# Altium footprint library MZBT_PcpLibrary.PcbLib: 144 footprints (part 6 of 9)
Each footprint in its own frame and in the unit in brackets; x right, y up, seen from the top. Pads: shape width x height; smd on the part's side, far side on the other; paste and mask are expansions set on the pad; w line width, h text height; cw(c..) or ccw(c..) is an arc to the next point about the centre after c.
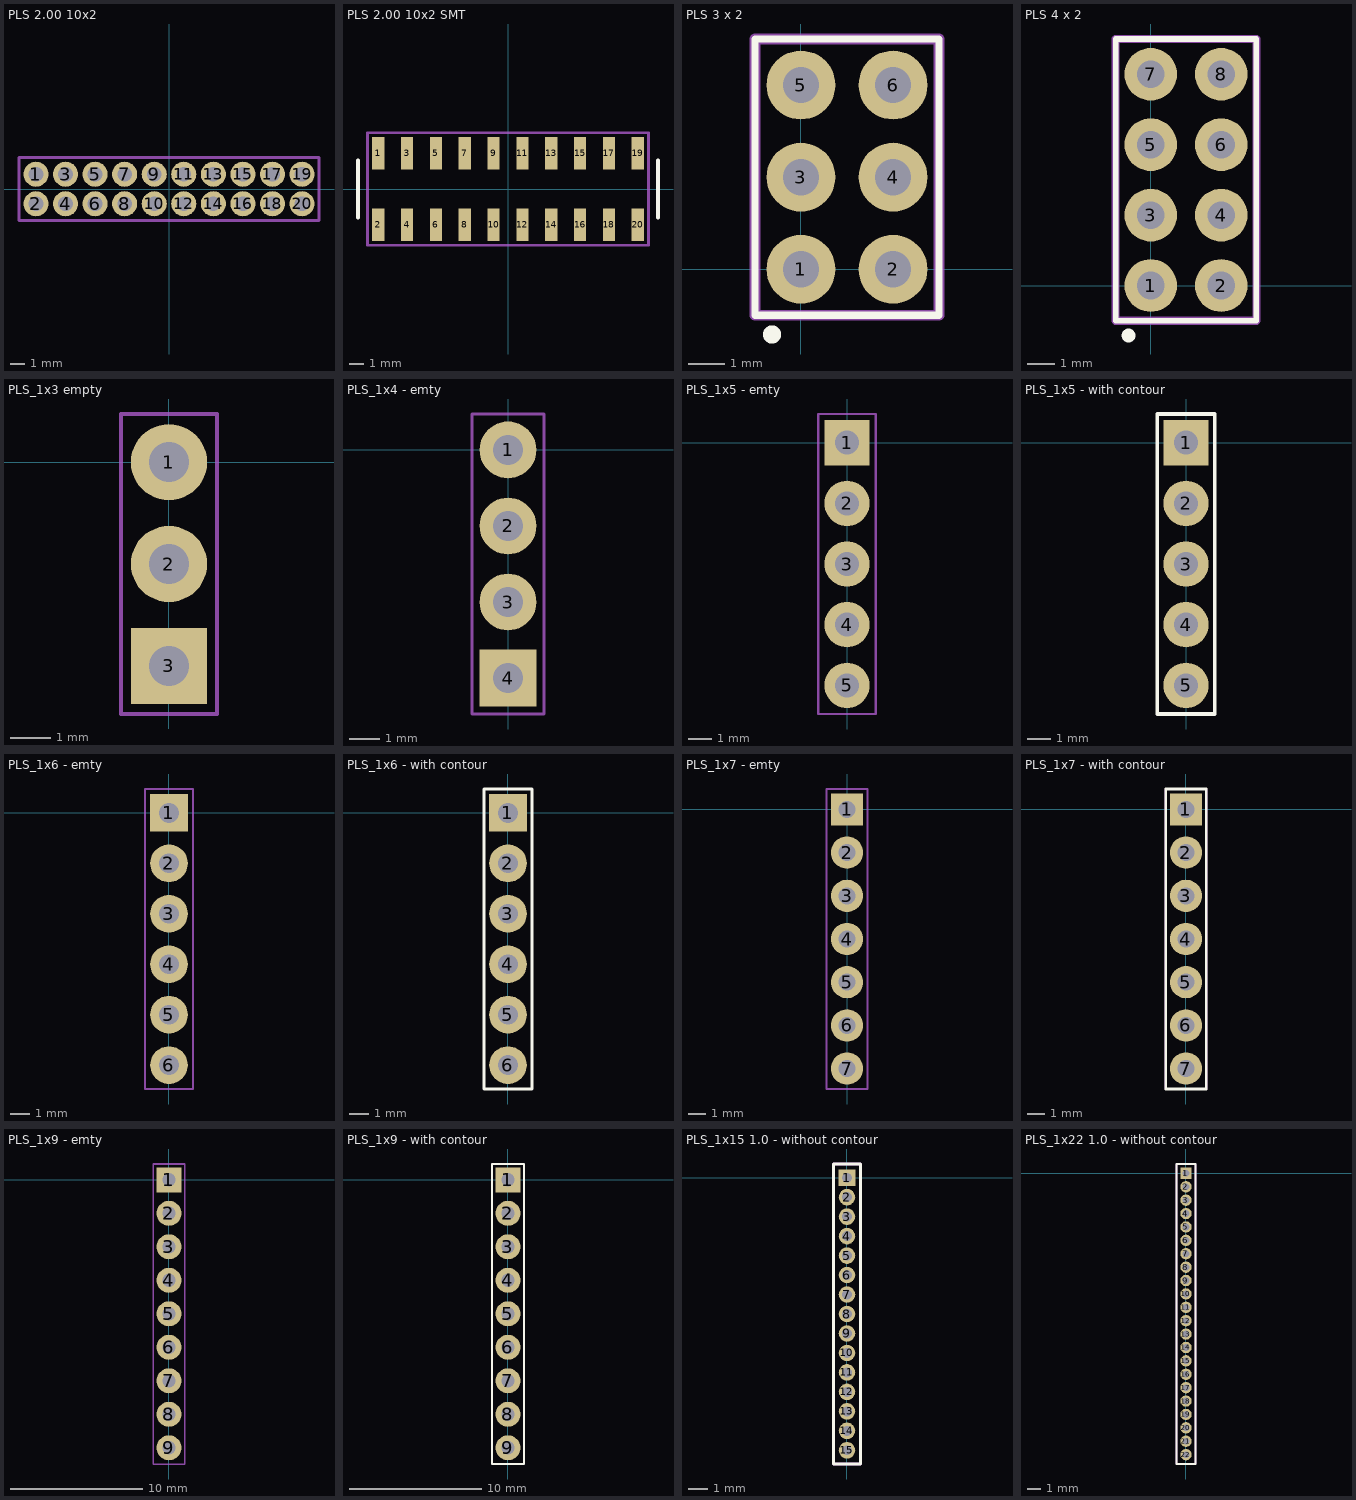
[diagram p5: the footprints below, top view; thin cyan lines are the x and y axes]

## PLS 2.00 10x2 [mm] "сквозной PLS 2.00 10x2"
pads (20):
  round 1.7 hole 1: 1(-9,1) 2(-9,-1) 3(-7,1) 4(-7,-1) 5(-5,1) 6(-5,-1) 7(-3,1) 8(-3,-1) 9(-1,1) 10(-1,-1) 11(1,1) 12(1,-1) 13(3,1) 14(3,-1) 15(5,1) 16(5,-1) 17(7,1) 18(7,-1) 19(9,1) 20(9,-1)
Top Courtyard:
  lines w0.2: -10.15,-2.125 -10.15,2.125 10.15,2.125 10.15,-2.125 -10.15,-2.125

## PLS 2.00 10x2 SMT [mm] "PLS с шагом 2мм 10x2 SMT монтажа"
pads (20):
  rect 0.85x2.25 smd: 1(-9,2.475) 2(-9,-2.475) 3(-7,2.475) 4(-7,-2.475) 5(-5,2.475) 6(-5,-2.475) 7(-3,2.475) 8(-3,-2.475) 9(-1,2.475) 10(-1,-2.475) 11(1,2.475) 12(1,-2.475) 13(3,2.475) 14(3,-2.475) 15(5,2.475) 16(5,-2.475) 17(7,2.475) 18(7,-2.475) 19(9,2.475) 20(9,-2.475)
Top Overlay:
  lines w0.254: -10.4,-2 -10.4,2 ; 10.4,-2 10.4,2
Top Courtyard:
  lines w0.2: -9.75,-3.9 -9.75,3.9 9.75,3.9 9.75,-3.9 -9.75,-3.9
3D body "SMT10x2pin.stp": height 4.3, standoff 0, extent -10.2,-3.25 10.2,3.25

## PLS 3 x 2 [mm] "2.54"
pads (6):
  round 1.9 hole 1: 1(0,0) 2(2.54,0) 3(0,2.54) 4(2.54,2.54) 5(0,5.08) 6(2.54,5.08)
Top Overlay:
  circle w0.25: c-0.8,-1.8 r0.125
  lines w0.2: -1.27,-1.27 -1.27,6.35 3.81,6.35 3.81,-1.27 -1.27,-1.27
Top Comment:
  text ".Comment" at 0.339,2.126 h0.6
Top Designator (Mech9):
  text ".Designator" at -0.176,2.643 h0.8
Top Courtyard:
  lines w0.3: -1.27,-1.27 -1.27,6.35 3.81,6.35 3.81,-1.27 -1.27,-1.27

## PLS 4 x 2 [mm] "2.54"
pads (8):
  round 1.9 hole 1: 1(0,0) 2(2.54,0) 3(0,2.54) 4(2.54,2.54) 5(0,5.08) 6(2.54,5.08) 7(0,7.62) 8(2.54,7.62)
Top Overlay:
  circle w0.25: c-0.8,-1.8 r0.125
  lines w0.2: -1.27,-1.27 3.81,-1.27 3.81,8.89 -1.27,8.89 -1.27,-1.27
Top Comment:
  text ".Comment" at 0.339,2.126 h0.6
Top Designator (Mech9):
  text ".Designator" at -0.176,2.643 h0.8
Top Courtyard:
  lines w0.3: -1.27,-1.27 3.81,-1.27 3.81,8.89 -1.27,8.89 -1.27,-1.27

## PLS_1x3 empty [mm]
height 0.05
pads (3):
  round 1.9 hole 1: 1(0,0) 2(0,-2.54)
  rect 1.9x1.9 hole 1: 3(0,-5.08)
Top Comment:
  lines w0.1: -1.2,-6.28 -1.2,1.2 1.2,1.2 1.2,-6.28 -1.2,-6.28
  text ".Comment" at 1.3,0.15 h0.6
Top Designator (Mech9):
  text ".Designator" at 1.3,0.65 h0.8
Top Courtyard:
  lines w0.1: -1.2,-6.28 1.2,-6.28 1.2,1.2 -1.2,1.2 -1.2,-6.28

## PLS_1x4 - emty [mm]
height 0.05
pads (4):
  round 1.9 hole 1: 1(0,0) 2(0,-2.54) 3(0,-5.08)
  rect 1.9x1.9 hole 1: 4(0,-7.62)
Top Comment:
  lines w0.1: -1.2,-8.82 1.2,-8.82 1.2,1.2 -1.2,1.2 -1.2,-8.82
  text ".Comment" at 1.3,0.15 h0.6
Top Designator (Mech9):
  text ".Designator" at 1.3,0.65 h0.8
Top Courtyard:
  lines w0.1: -1.2,-8.82 -1.2,1.2 1.2,1.2 1.2,-8.82 -1.2,-8.82

## PLS_1x5 - emty [mm]
height 0.05
pads (5):
  rect 1.9x1.9 hole 1: 1(0,0)
  round 1.9 hole 1: 2(0,-2.54) 3(0,-5.08) 4(0,-7.62) 5(0,-10.16)
Top Comment:
  lines w0.1: -1.2,-11.36 -1.2,1.2 1.2,1.2 1.2,-11.36 -1.2,-11.36
  text ".Comment" at 1.3,0.15 h0.6
Top Designator (Mech9):
  text ".Designator" at 1.3,0.65 h0.8
Top Courtyard:
  lines w0.1: -1.2,-11.36 -1.2,1.2 1.2,1.2 1.2,-11.36 -1.2,-11.36

## PLS_1x5 - with contour [mm]
height 0.05
pads (5):
  rect 1.9x1.9 hole 1: 1(0,0)
  round 1.9 hole 1: 2(0,-2.54) 3(0,-5.08) 4(0,-7.62) 5(0,-10.16)
Top Overlay:
  lines w0.15: -1.2,-11.36 -1.2,1.2 1.2,1.2 1.2,-11.36 -1.2,-11.36
Top Comment:
  lines w0.1: -1.2,-11.36 1.2,-11.36 1.2,1.2 -1.2,1.2 -1.2,-11.36
  text ".Comment" at 1.3,0.15 h0.6
Top Designator (Mech9):
  text ".Designator" at 1.3,0.65 h0.8
Top Courtyard:
  lines w0.1: -1.2,-11.36 1.2,-11.36 1.2,1.2 -1.2,1.2 -1.2,-11.36

## PLS_1x6 - emty [mm]
height 0.05
pads (6):
  rect 1.9x1.9 hole 1: 1(0,0)
  round 1.9 hole 1: 2(0,-2.54) 3(0,-5.08) 4(0,-7.62) 5(0,-10.16) 6(0,-12.7)
Top Comment:
  lines w0.1: -1.2,-13.9 -1.2,1.2 1.2,1.2 1.2,-13.9 -1.2,-13.9
  text ".Comment" at 1.3,0.15 h0.6
Top Designator (Mech9):
  text ".Designator" at 1.3,0.65 h0.8
Top Courtyard:
  lines w0.102: -1.2,-13.9 1.2,-13.9 1.2,1.2 -1.2,1.2 -1.2,-13.9

## PLS_1x6 - with contour [mm]
height 0.05
pads (6):
  rect 1.9x1.9 hole 1: 1(0,0)
  round 1.9 hole 1: 2(0,-2.54) 3(0,-5.08) 4(0,-7.62) 5(0,-10.16) 6(0,-12.7)
Top Overlay:
  lines w0.15: -1.2,-13.9 1.2,-13.9 1.2,1.2 -1.2,1.2 -1.2,-13.9
Top Comment:
  lines w0.1: -1.2,-13.9 -1.2,1.2 1.2,1.2 1.2,-13.9 -1.2,-13.9
  text ".Comment" at 1.3,0.15 h0.6
Top Designator (Mech9):
  text ".Designator" at 1.3,0.65 h0.8
Top Courtyard:
  lines w0.102: -1.2,-13.9 1.2,-13.9 1.2,1.2 -1.2,1.2 -1.2,-13.9

## PLS_1x7 - emty [mm]
height 0.05
pads (7):
  rect 1.9x1.9 hole 1: 1(0,0)
  round 1.9 hole 1: 2(0,-2.54) 3(0,-5.08) 4(0,-7.62) 5(0,-10.16) 6(0,-12.7) 7(0,-15.24)
Top Comment:
  lines w0.1: -1.2,-16.44 -1.2,1.2 ; -1.2,-16.44 1.2,-16.44 ; -1.2,-16.44 1.2,-16.44 ; -1.2,-16.44 -1.2,1.2 ; -1.2,1.2 1.2,1.2 ; -1.2,1.2 1.2,1.2 ; 1.2,-16.44 1.2,1.2 ; 1.2,-16.44 1.2,1.2
  text ".Comment" at 1.3,0.05 h0.6
Top Designator (Mech9):
  text ".Designator" at 1.3,0.55 h0.8
Top Courtyard:
  lines w0.1: -1.2,-16.44 -1.2,1.2 1.2,1.2 1.2,-16.44 -1.2,-16.44

## PLS_1x7 - with contour [mm]
height 0.05
pads (7):
  rect 1.9x1.9 hole 1: 1(0,0)
  round 1.9 hole 1: 2(0,-2.54) 3(0,-5.08) 4(0,-7.62) 5(0,-10.16) 6(0,-12.7) 7(0,-15.24)
Top Overlay:
  lines w0.15: -1.2,-16.44 1.2,-16.44 1.2,1.2 -1.2,1.2 -1.2,-16.44
Top Comment:
  lines w0.1: -1.2,-16.44 1.2,-16.44 ; -1.2,1.2 1.2,1.2
  lines w0.102: -1.2,1.2 -1.2,-16.44 1.2,-16.44 1.2,1.2
  text ".Comment" at 1.3,0.05 h0.6
Top Designator (Mech9):
  text ".Designator" at 1.3,0.55 h0.8
Top Courtyard:
  lines w0.102: -1.2,-16.44 -1.2,1.2 1.2,1.2 1.2,-16.44 ; -1.2,-16.44 1.2,-16.44 ; -1.2,-16.44 1.2,-16.44

## PLS_1x9 - emty [mm]
height 0.05
pads (9):
  rect 1.9x1.9 hole 1: 1(0,0)
  round 1.9 hole 1: 2(0,-2.54) 3(0,-5.08) 4(0,-7.62) 5(0,-10.16) 6(0,-12.7) 7(0,-15.24) 8(0,-17.78) 9(0,-20.32)
Top Comment:
  lines w0.1: -1.2,-21.55 1.2,-21.55 1.2,1.2 -1.2,1.2 -1.2,-21.55
  text ".Comment" at 1.3,0.05 h0.6
Top Designator (Mech9):
  text ".Designator" at 1.3,0.55 h0.8
Top Courtyard:
  lines w0.102: -1.2,-21.55 1.2,-21.55 1.2,1.2 -1.2,1.2 -1.2,-21.55

## PLS_1x9 - with contour [mm]
height 0.05
pads (9):
  rect 1.9x1.9 hole 1: 1(0,0)
  round 1.9 hole 1: 2(0,-2.54) 3(0,-5.08) 4(0,-7.62) 5(0,-10.16) 6(0,-12.7) 7(0,-15.24) 8(0,-17.78) 9(0,-20.32)
Top Overlay:
  lines w0.15: -1.2,-21.55 1.2,-21.55 1.2,1.2 -1.2,1.2 -1.2,-21.55
Top Comment:
  lines w0.1: -1.2,-21.55 -1.2,1.2 1.2,1.2 1.2,-21.55 -1.2,-21.55
  text ".Comment" at 1.3,0.05 h0.6
Top Designator (Mech9):
  text ".Designator" at 1.3,0.55 h0.8
Top Courtyard:
  lines w0.102: -1.2,-21.55 -1.2,1.2 1.2,1.2 1.2,-21.55 -1.2,-21.55

## PLS_1x15 1.0 - without contour [mm]
height 0.05
pads (15):
  rect 0.85x0.85 hole 0.5: 1(0,0)
  round 0.85 hole 0.5: 2(0,-1) 3(0,-2) 4(0,-3) 5(0,-4) 6(0,-5) 7(0,-6) 8(0,-7) 9(0,-8) 10(0,-9) 11(0,-10) 12(0,-11) 13(0,-12) 14(0,-13) 15(0,-14)
Top Overlay:
  lines w0.15: -0.7,-14.7 -0.7,0.7 0.7,0.7 0.7,-14.7 -0.7,-14.7
Top Comment:
  lines w0.1: -0.7,-14.7 -0.7,0.7 0.7,0.7 0.7,-14.7 -0.7,-14.7
  text ".Comment" at 0.8,-0.3 h0.6
Top Designator (Mech9):
  text ".Designator" at 0.8,0.2 h0.8
Top Courtyard:
  lines w0.15: -0.7,-14.7 0.7,-14.7 0.7,0.7 -0.7,0.7 -0.7,-14.7

## PLS_1x22 1.0 - without contour [mm]
height 0.05
pads (22):
  rect 0.85x0.85 hole 0.5: 1(0,0)
  round 0.85 hole 0.5: 2(0,-1) 3(0,-2) 4(0,-3) 5(0,-4) 6(0,-5) 7(0,-6) 8(0,-7) 9(0,-8) 10(0,-9) 11(0,-10) 12(0,-11) 13(0,-12) 14(0,-13) 15(0,-14) 16(0,-15) 17(0,-16) 18(0,-17) 19(0,-18) 20(0,-19) 21(0,-20) 22(0,-21)
Top Overlay:
  lines w0.15: -0.7,-21.7 0.7,-21.7 0.7,0.7 -0.7,0.7 -0.7,-21.7
Top Comment:
  lines w0.1: -0.7,-21.7 0.7,-21.7 0.7,0.7 -0.7,0.7 -0.7,-21.7
  text ".Comment" at 0.8,-0.3 h0.6
Top Designator (Mech9):
  text ".Designator" at 0.8,0.2 h0.8
Top Courtyard:
  lines w0.15: -0.7,-21.7 0.7,-21.7 0.7,0.7 -0.7,0.7 -0.7,-21.7